# EAGLE library part 1365-58 (library EW_Connectors)
DUAL ROW STRAIGHT HEADER 1364 SERIES. 1.27mm x 1.27mm. Without Fixing Post. SMT Source: http://www.leotronics.co.uk/Conexcon/Data%20Sheets/sec.%20A/1364ing.pdf
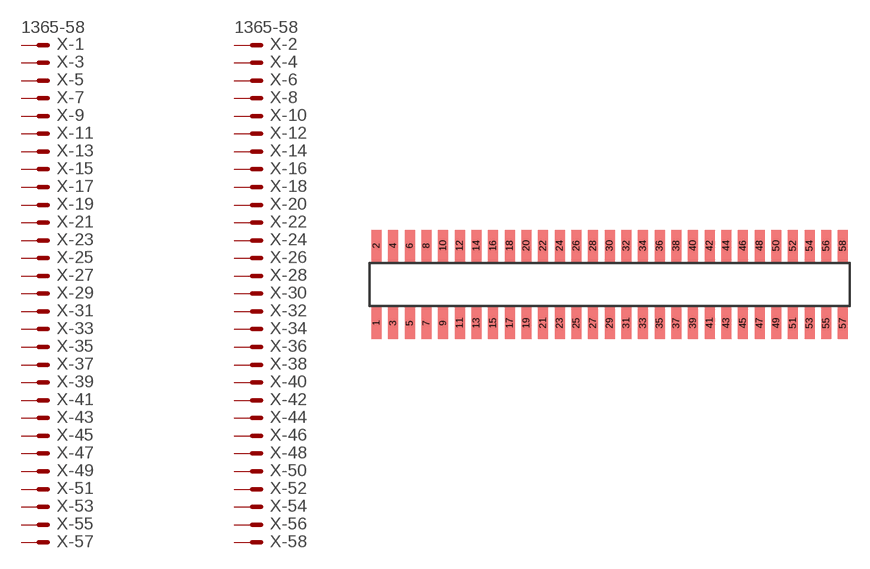
[diagram p174: symbol with the pads of 1365-58; footprint 1365-58]

Designator prefix X; gates -1=MVAL-38 -2=MVAL-38 -3=M-50 -4=M-50 -5=M-50 -6=M-50 -7=M-50 -8=M-50 -9=M-50 -10=M-50 -11=M-50 -12=M-50 -13=M-50 -14=M-50 -15=M-50 -16=M-50 -17=M-50 -18=M-50 -19=M-50 -20=M-50 -21=M-50 -22=M-50 -23=M-50 -24=M-50 -25=M-50 -26=M-50 -27=M-50 -28=M-50 -29=M-50 -30=M-50 -31=M-50 -32=M-50 -33=M-50 -34=M-50 -35=M-50 -36=M-50 -37=M-50 -38=M-50 -39=M-50 -40=M-50 -41=M-50 -42=M-50 -43=M-50 -44=M-50 -45=M-50 -46=M-50 -47=M-50 -48=M-50 -49=M-50 -50=M-50 -51=M-50 -52=M-50 -53=M-50 -54=M-50 -55=M-50 -56=M-50 -57=M-50 -58=M-50

## 1365-58 (OC_FARNELL: unknown; OC_NEWARK: unknown)  [1365-58]
1  -1:S  pas
2  -2:S  pas
3  -3:S  pas
4  -4:S  pas
5  -5:S  pas
6  -6:S  pas
7  -7:S  pas
8  -8:S  pas
9  -9:S  pas
10  -10:S  pas
11  -11:S  pas
12  -12:S  pas
13  -13:S  pas
14  -14:S  pas
15  -15:S  pas
16  -16:S  pas
17  -17:S  pas
18  -18:S  pas
19  -19:S  pas
20  -20:S  pas
21  -21:S  pas
22  -22:S  pas
23  -23:S  pas
24  -24:S  pas
25  -25:S  pas
26  -26:S  pas
27  -27:S  pas
28  -28:S  pas
29  -29:S  pas
30  -30:S  pas
31  -31:S  pas
32  -32:S  pas
33  -33:S  pas
34  -34:S  pas
35  -35:S  pas
36  -36:S  pas
37  -37:S  pas
38  -38:S  pas
39  -39:S  pas
40  -40:S  pas
41  -41:S  pas
42  -42:S  pas
43  -43:S  pas
44  -44:S  pas
45  -45:S  pas
46  -46:S  pas
47  -47:S  pas
48  -48:S  pas
49  -49:S  pas
50  -50:S  pas
51  -51:S  pas
52  -52:S  pas
53  -53:S  pas
54  -54:S  pas
55  -55:S  pas
56  -56:S  pas
57  -57:S  pas
58  -58:S  pas

## Footprint 1365-58 (pad centres in mm)
DUAL ROW STRAIGHT HEADER 1364 SERIES. 1.27mm x 1.27mm. Without Fixing Post. SMT Source: http://www.leotronics.co.uk/Conexcon/Data%20Sheets/sec.%20A/1364ing.pdf
smd 0.76 x 2.4: 1 -17.78,-2.95; 2 -17.78,2.95; 3 -16.51,-2.95; 4 -16.51,2.95; 5 -15.24,-2.95; 6 -15.24,2.95; 7 -13.97,-2.95; 8 -13.97,2.95; 9 -12.7,-2.95; 10 -12.7,2.95; 11 -11.43,-2.95; 12 -11.43,2.95; 13 -10.16,-2.95; 14 -10.16,2.95; 15 -8.89,-2.95; 16 -8.89,2.95; 17 -7.62,-2.95; 18 -7.62,2.95; 19 -6.35,-2.95; 20 -6.35,2.95; 21 -5.08,-2.95; 22 -5.08,2.95; 23 -3.81,-2.95; 24 -3.81,2.95; 25 -2.54,-2.95; 26 -2.54,2.95; 27 -1.27,-2.95; 28 -1.27,2.95; 29 0,-2.95; 30 0,2.95; 31 1.27,-2.95; 32 1.27,2.95; 33 2.54,-2.95; 34 2.54,2.95; 35 3.81,-2.95; 36 3.81,2.95; 37 5.08,-2.95; 38 5.08,2.95; 39 6.35,-2.95; 40 6.35,2.95; 41 7.62,-2.95; 42 7.62,2.95; 43 8.89,-2.95; 44 8.89,2.95; 45 10.16,-2.95; 46 10.16,2.95; 47 11.43,-2.95; 48 11.43,2.95; 49 12.7,-2.95; 50 12.7,2.95; 51 13.97,-2.95; 52 13.97,2.95; 53 15.24,-2.95; 54 15.24,2.95; 55 16.51,-2.95; 56 16.51,2.95; 57 17.78,-2.95; 58 17.78,2.95